# EAGLE library part LI-ION_BAT_CHRG_W/PROT (library e-radionica_E-R MADE)
SKU: 222007 Since lithium batteries demand a special charging regime, and you must not charge them on a regular power source, you will need a charger like this one. Affordable, with integrated CC/CV charging regime, definitely the easiest way to charge some lithium batteries. Input voltage is connectable via USB cables or separate terminals. In addition, this charger includes battery protection which means that your cell (18650 battery for example) is protected from overvoltage, undervoltage and a large short circuit current. • Input voltage: 4.5V-5.5V • Output max. current: 1A, adjustable • A voltage at which the charging stops: 4.2V • Two LED diodes, red diode signals charging, green diode signals full battery • With short circuit, overvoltage and undervoltage protection! • Without reverse polarity protection on input!
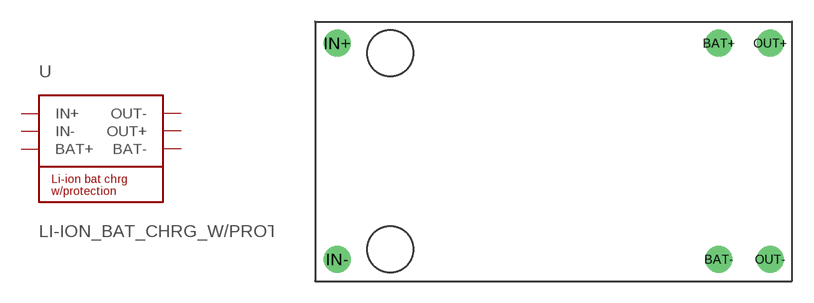
[diagram p7: symbol with the pads of LI-ION_BAT_CHRG_W/PROT; footprint LI-ION_BAT_CHRG_W/PROT]

Designator prefix -

## LI-ION_BAT_CHRG_W/PROT  [LI-ION_BAT_CHRG_W/PROT]
BAT+  BAT+  sup
BAT-  BAT-  sup
IN+  IN+  sup
IN-  IN-  sup
OUT+  OUT+  sup
OUT-  OUT-  sup

## Footprint LI-ION_BAT_CHRG_W/PROT (pad centres in mm)
drill 1.016 pad 1.88: BAT+ 27.94,16.51; BAT- 27.94,1.524; IN+ 1.524,16.51; IN- 1.524,1.524; OUT+ 31.496,16.51; OUT- 31.496,1.524